# EAGLE library part UB2-DPBICOLOR (library SKAARHOJ)
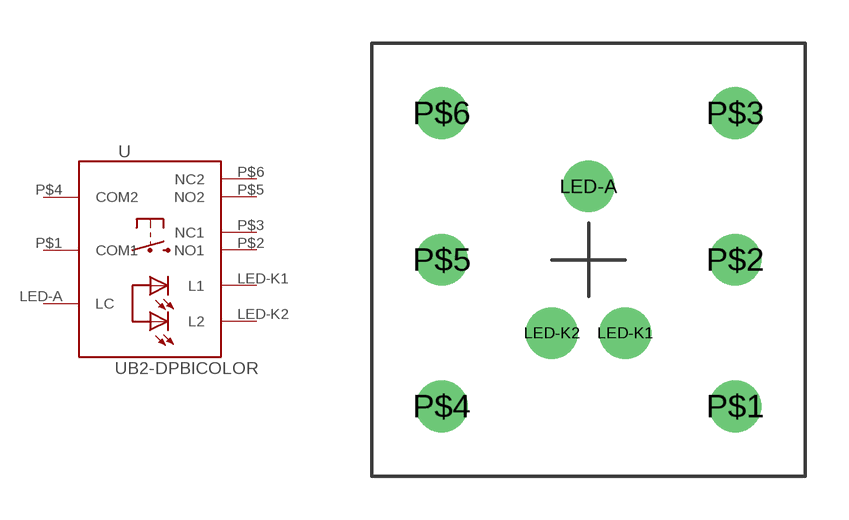
[diagram p33: symbol with the pads of UB2-DPBICOLOR; footprint UB2-DPBICOLOR]

Designator prefix -

## UB2-DPBICOLOR  [UB2-DPBICOLOR]
LED-A  LC
LED-K1  L1
LED-K2  L2
P$1  COM1
P$2  NO1
P$3  NC1
P$4  COM2
P$5  NO2
P$6  NC2

## Footprint UB2-DPBICOLOR (pad centres in mm)
drill 1.194: LED-A 0,2.54; LED-K1 1.27,-2.54; LED-K2 -1.27,-2.54; P$1 5.08,-5.08; P$2 5.08,0; P$3 5.08,5.08; P$4 -5.08,-5.08; P$5 -5.08,0; P$6 -5.08,5.08